# Altium schematic symbol library nxp-mosfet.SchLib: 8 symbols
Pins are listed as number, name and electrical type; pins without a type are passive.

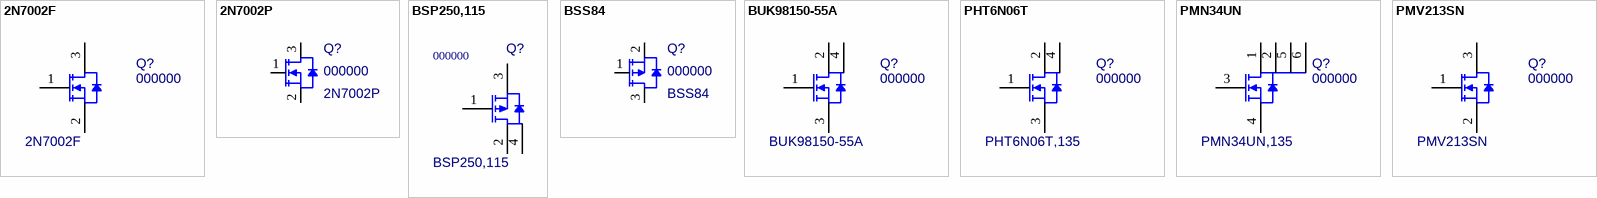
[diagram p0: symbols 2N7002F to PMV213SN]

## 2N7002F
designator Q?, comment 000000  value 2N7002F
N-Channel MOSFET 60V 475mA SOT-23; PN: 000000; Package: SOT-23; ExtraInfo: *
footprint SOT-23 (SOT23, 3-Leads, Body 3.0x2.8mm (max), Pitch 0.95mm, IPC High Density)
simulation model 2N7002F (NXP 2N7002F)
footprint SOT-23-M (SOT23, 3-Leads, Body 3.0x2.8mm (max), Pitch 0.95mm, Medium Density)
pins: 1 G, 2 S, 3 D

## 2N7002P
designator Q?, comment 000000  value 2N7002P
N-Channel MOSFET 60V 360mA SOT-23; PN: 000000; Package: SOT-23; ExtraInfo: *
footprint SOT-23-M (SOT23, 3-Leads, Body 3.0x2.8mm (max), Pitch 0.95mm, Medium Density)
pins: 1 G, 2 S, 3 D

## BSP250,115
designator Q?, comment 000000  value BSP250,115
P-Channel MOSFET 30V -3A SOT223; Package: SOT-223; PN: 000000; ExtraInfo: *
footprint SC-73 (SOT223, 4-Leads, Body 6.7x7.3mm (max), Pitch 2.30mm, IPC Medium Density)
simulation model BSP250
pins: 1 G, 2 D, 3 S, 4 D

## BSS84
designator Q?, comment 000000  value BSS84
N-Channel MOSFET 60V 360mA SOT-23; PN: 000000; Package: SOT-23; ExtraInfo: *
footprint SOT-23-M (SOT23, 3-Leads, Body 3.0x2.8mm (max), Pitch 0.95mm, Medium Density)
pins: 1 G, 2 S, 3 D

## BUK98150-55A
designator Q?, comment 000000  value BUK98150-55A
N-Channel MOSFET 55V 5.5A SOT-223; Manufacturer: Diodes/Zetex; PN: 000000; Package: SOT-223; ExtraInfo: *
footprint SC-73 (SOT223, 4-Leads, Body 6.7x7.3mm (max), Pitch 2.30mm, IPC Medium Density)
pins: 1 G, 2 D, 3 S, 4 D

## PHT6N06T
designator Q?, comment 000000  value PHT6N06T,135
N-Channel MOSFET 55V 5.5A SOT-223; Manufacturer: Diodes/Zetex; PN: 000000; Package: SOT-223; ExtraInfo: *
footprint SC-73 (SOT223, 4-Leads, Body 6.7x7.3mm (max), Pitch 2.30mm, IPC Medium Density)
simulation model PHT6N06LT (NXP PHT6N06LT)
pins: 1 G, 2 D, 3 S, 4 D

## PMN34UN
designator Q?, comment 000000  value PMN34UN,135
N-Channel MOSFET 30V 4.9A 6TSOP; PN: 000000; Package: SOT23-6; ExtraInfo: *
footprint SOT457 (SOT23, 6-Leads, Body 3.1x3.0mm (max), Pitch 0.95mm, IPC Medium Density)
simulation model PMN34UN (ZETEX ZXMN3A03E6 Spice Model v2.0 Last revision 15/03/07)
pins: 1 D, 2 D, 3 G, 4 S, 5 D, 6 D

## PMV213SN
designator Q?, comment 000000  value PMV213SN
N-Channel MOSFET 100V 1.9A SOT-23; PN: 000000; Package: SOT-23; ExtraInfo: *
footprint SOT-23 (SOT23, 3-Leads, Body 3.0x2.8mm (max), Pitch 0.95mm, IPC High Density)
simulation model PMV213SN (NXP PMV213SN)
pins: 1 G, 2 S, 3 D